# EAGLE library part HEADER_20WAYS (library AniBike_Common_Library)
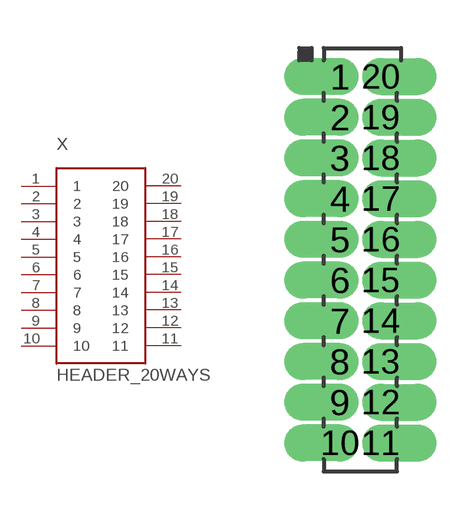
[diagram p8: symbol with the pads of HEADER_20WAYS_1.27"; footprint HEADER_20WAYS_1.27"]

Designator prefix X

## HEADER_20WAYS  [HEADER_20WAYS_1.27"]
1  1
2  2
3  3
4  4
5  5
6  6
7  7
8  8
9  9
10  10
11  11
12  12
13  13
14  14
15  15
16  16
17  17
18  18
19  19
20  20

## Footprint HEADER_20WAYS_1.27" (pad centres in mm)
drill 0.65 pad 0.813 offset: 1 -1.27,5.08; 2 -1.27,3.81; 3 -1.27,2.54; 4 -1.27,1.27; 5 -1.27,0; 6 -1.27,-1.27; 7 -1.27,-2.54; 8 -1.27,-3.81; 9 -1.27,-5.08; 10 -1.27,-6.35; 11 0,-6.35; 12 0,-5.08; 13 0,-3.81; 14 0,-2.54; 15 0,-1.27; 16 0,0; 17 0,1.27; 18 0,2.54; 19 0,3.81; 20 0,5.08